# Altium schematic symbol library EthIO_Gateway.SchLib: 2 symbols
Pins are listed as number, name and electrical type; pins without a type are passive.

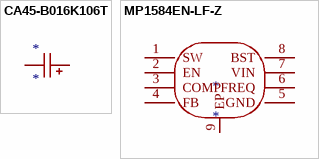
[diagram p0: symbols CA45-B016K106T to MP1584EN-LF-Z]

## CA45-B016K106T
designator *
pins: 1, 2

## MP1584EN-LF-Z
designator *
pins: 1 SW, 2 EN, 3 COMP, 4 FB, 5 GND, 6 FREQ, 7 VIN, 8 BST, 9 EP